# Altium footprint library LT-Z-3-S-TO-226_V.PcbLib: 1 footprints
Each footprint in its own frame and in the unit in brackets; x right, y up, seen from the top. Pads: shape width x height; smd on the part's side, far side on the other; paste and mask are expansions set on the pad; w line width, h text height; cw(c..) or ccw(c..) is an arc to the next point about the centre after c.
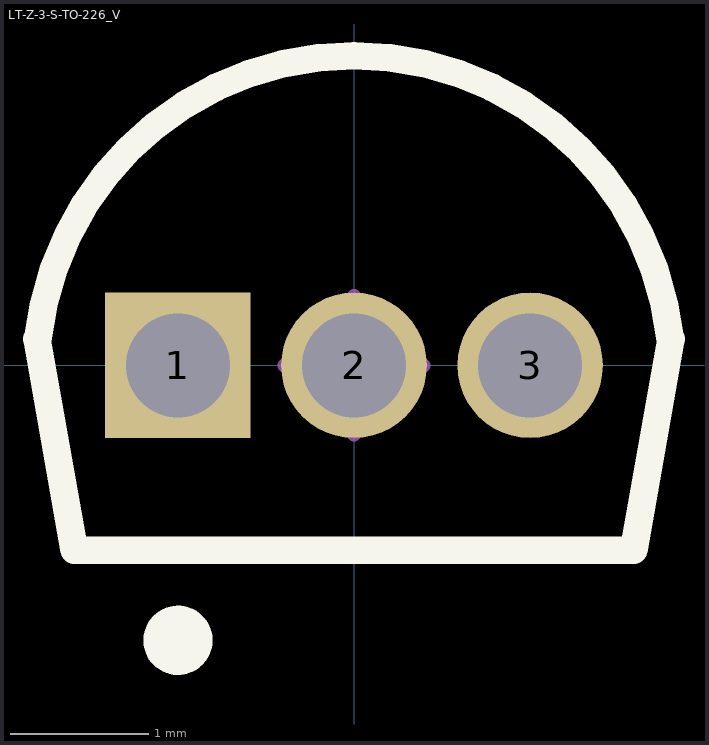
[diagram p0: the footprint, top view; thin cyan lines are the x and y axes]

## LT-Z-3-S-TO-226_V [mm] "TO-92, 3-Leads, Body 4.572x3.556mm, Pitch 1.27mm"
height 5.969
pads (3):
  rect 1.05x1.05 hole 0.75: 1(-1.27,0)
  round 1.05 hole 0.75: 2(0,0) 3(1.27,0)
Top Overlay:
  circle w0.25: c-1.27,-1.984 r0.125
  lines w0.2: -2.286,0.191 -2.017,-1.333 2.017,-1.333 2.286,0.191 ; -2.281,0.19 cw(c0,-0.062) 2.281,0.19
Mechanical 13:
  lines w0.1: -2.286,0.191 -2.017,-1.333 2.017,-1.333 2.286,0.191 ; -2.281,0.19 cw(c0,-0.062) 2.281,0.19
Mechanical 15:
  lines w0.1: -0.5,0 0.5,0 ; 0,-0.5 0,0.5
3D body: height 0, standoff -1.6, extent -0.135,-0.36 0.135,0.36
3D body: height 0, standoff -1.6, extent -1.405,-0.36 -1.135,0.36
3D body: height 1.27, standoff 0, extent -0.127,-0.5 0.143,0.5
3D body: height 1.27, standoff 0, extent 1.135,-0.5 1.405,0.5
3D body: height 1.27, standoff 0, extent -1.405,-0.5 -1.135,0.5
3D body: height 5.97, standoff 1.27, extent -2.285,-1.333 2.285,0.19
3D body: height 5.97, standoff 1.27, extent -2.281,0.19 2.286,2.235
3D body: height 0, standoff -1.6, extent 1.135,-0.36 1.405,0.36
3D body: height 1, standoff 0, extent -1.524,-0.254 -1.016,-0.254